# Altium schematic symbol library SCH - POWER - SWITCHMODE - TI TPS61050_DRC_10.SchLib: 1 symbol
Pins are listed as number, name and electrical type; pins without a type are passive.

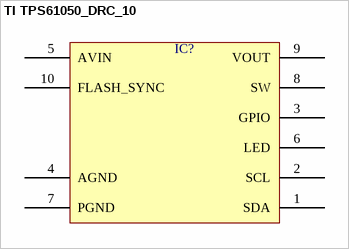
[diagram p0: symbol TI TPS61050_DRC_10]

## TI TPS61050_DRC_10
designator IC?  (value not drawn)
pins: 1 SDA, 2 SCL, 3 GPIO, 4 AGND, 5 AVIN, 6 LED, 7 PGND, 8 SW, 9 VOUT, 10 FLASH_SYNC